# EAGLE library part MAX-M8Q-0 (library ruark2)
MAX-M8 RF Receiver BeiDou, Galileo, GLONASS, GNSS, GPS 1.575GHz -167dBm
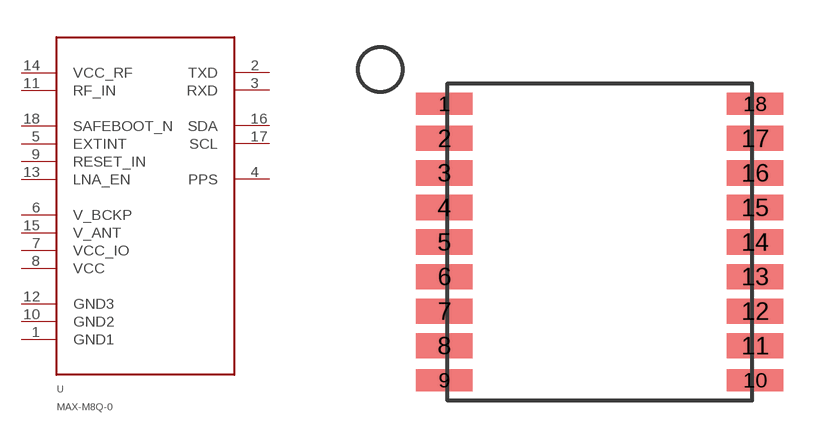
[diagram p106: symbol with the pads of MAX-M8; footprint MAX-M8]

Designator prefix U

## MAX-M8Q-0 (PARTNO: 672-MAX-M8Q-0CT-ND)  [MAX-M8]
1  GND1
2  TXD
3  RXD
4  PPS
5  EXTINT
6  V_BCKP
7  VCC_IO
8  VCC
9  RESET_IN
10  GND2
11  RF_IN
12  GND3
13  LNA_EN
14  VCC_RF
15  V_ANT
16  SDA
17  SCL
18  SAFEBOOT_N

## Footprint MAX-M8 (pad centres in mm)
smd 1.8 x 0.7: 1 -4.95,4.4; 9 -4.95,-4.4; 10 4.95,-4.4; 18 4.95,4.4
smd 1.8 x 0.8: 2 -4.95,3.3; 3 -4.95,2.2; 4 -4.95,1.1; 5 -4.95,0; 6 -4.95,-1.1; 7 -4.95,-2.2; 8 -4.95,-3.3; 11 4.95,-3.3; 12 4.95,-2.2; 13 4.95,-1.1; 14 4.95,0; 15 4.95,1.1; 16 4.95,2.2; 17 4.95,3.3